# Altium footprint library aPassive.PcbLib: 212 footprints (part 7 of 14)
Each footprint in its own frame and in the unit in brackets; x right, y up, seen from the top. Pads: shape width x height; smd on the part's side, far side on the other; paste and mask are expansions set on the pad; w line width, h text height; cw(c..) or ccw(c..) is an arc to the next point about the centre after c.
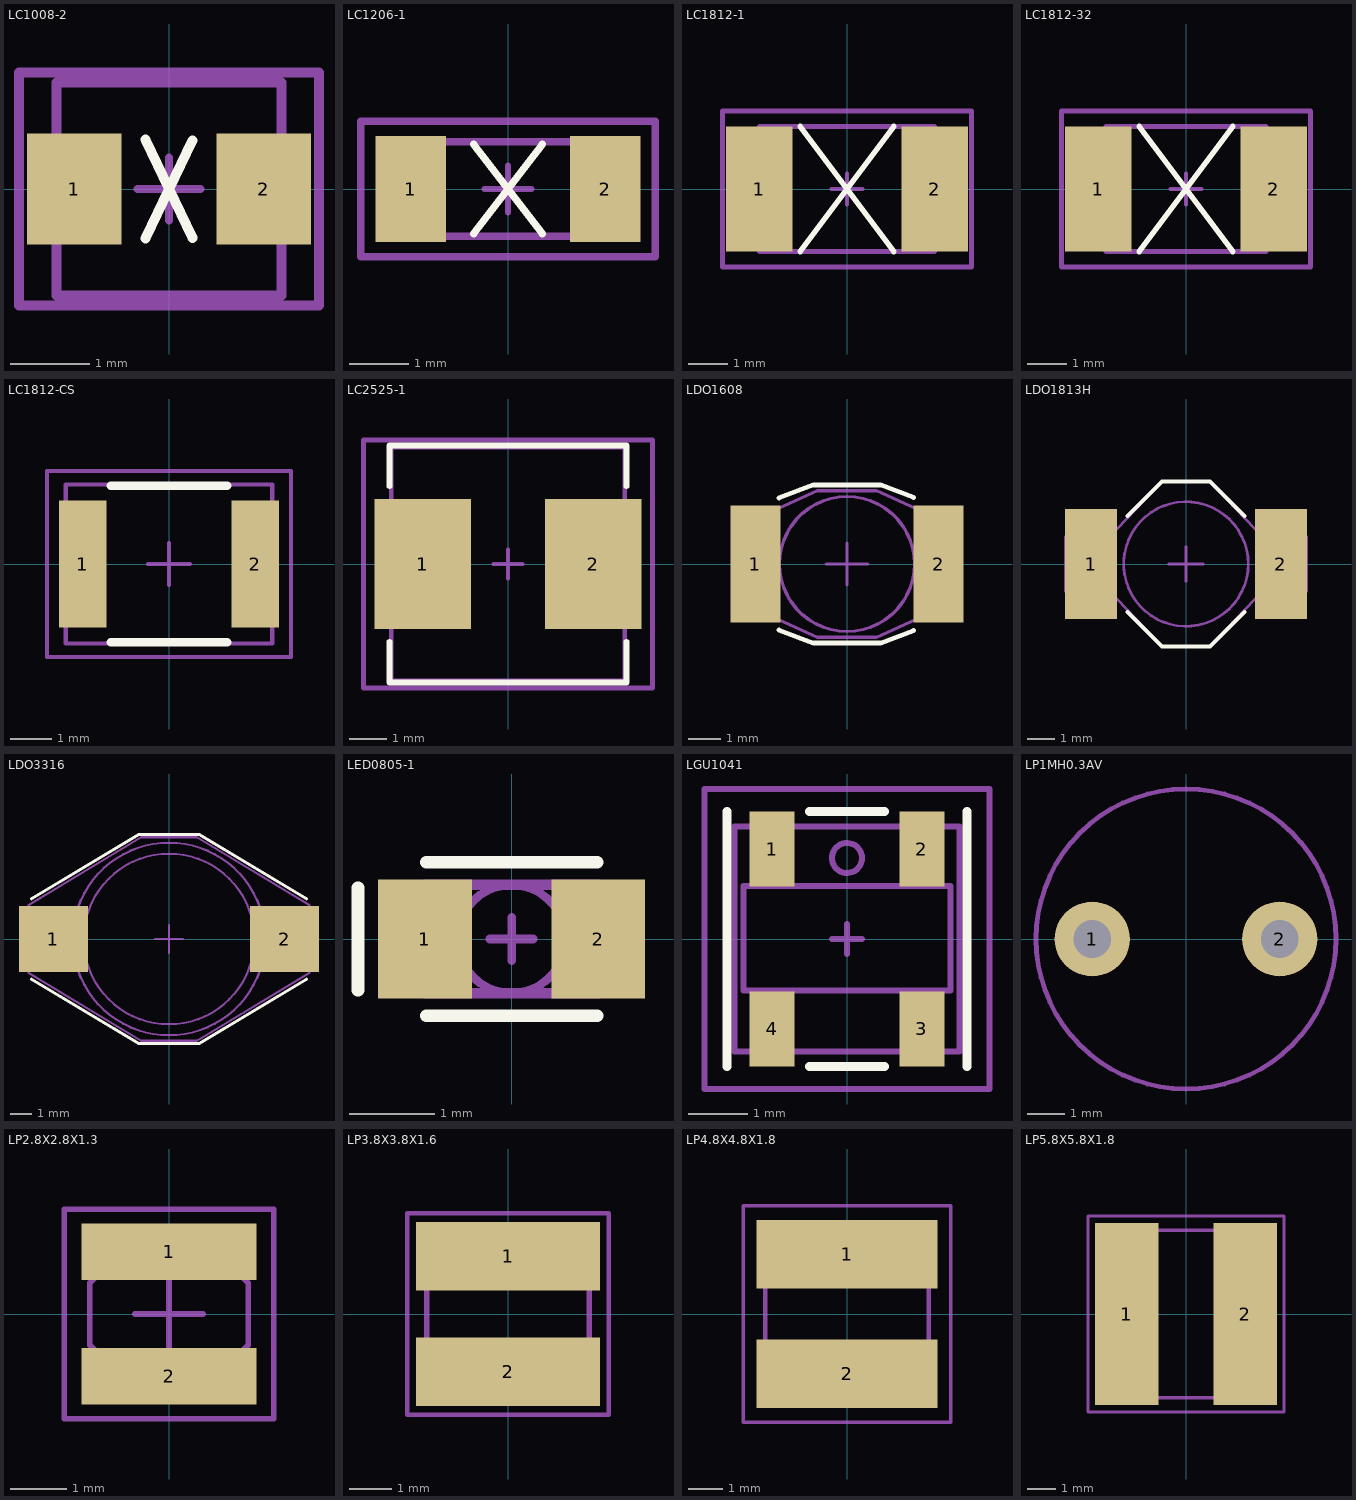
[diagram p6: the footprints below, top view; thin cyan lines are the x and y axes]

## LC1008-2 [mm] "Chip inductor  1008 2.84x2.73mm"
height 2.2
pads (2):
  rect 1.2x1.4 smd: 1(-1.2,0) 2(1.2,0)
Top Overlay:
  lines w0.127: -0.3,-0.625 0.296,0.616 ; -0.3,0.625 0.296,-0.618
Mechanical 13:
  lines w0.127: -1.425,-1.35 1.425,-1.35 1.425,1.35 -1.425,1.35 -1.425,-1.35
Mechanical 15:
  lines w0.102: -0.4,0 0.4,0 ; 0,-0.4 0,0.4
  lines w0.127: -1.9,-1.475 -1.9,1.475 1.9,1.475 1.9,-1.475 -1.9,-1.475
3D body: height 0.7, standoff 0, extent -1.55,-0.6 1.55,0.6
3D body: height 1.4, standoff 0, extent -1.425,-1.346 1.425,1.346

## LC1206-1 [mm] "Chip inductor 1206 (3216)"
height 2
pads (2):
  rect 1.2x1.8 smd: 1(-1.65,0) 2(1.65,0)
Top Overlay:
  lines w0.127: -0.584,-0.762 0.584,0.762 ; -0.584,0.762 0.584,-0.762
Mechanical 13:
  lines w0.127: -1.6,-0.8 1.6,-0.8 1.6,0.8 -1.6,0.8 -1.6,-0.8
Mechanical 15:
  lines w0.102: -0.4,0 0.4,0 ; 0,-0.4 0,0.4
  lines w0.127: -2.5,-1.15 -2.5,1.15 2.5,1.15 2.5,-1.15 -2.5,-1.15
3D body: height 1.3, standoff 0, extent -1.6,-0.8 1.6,0.8

## LC1812-1 [mm] "Chip capacitor 1812 (4532)"
height 1.3
pads (2):
  rect 1.7x3.2 smd: 1(-2.25,0) 2(2.25,0)
Top Overlay:
  lines w0.15: -1.2,-1.6 1.2,1.6 ; -1.2,1.6 1.2,-1.6
Mechanical 13:
  lines w0.127: -2.25,-1.6 2.25,-1.6 2.25,1.6 -2.25,1.6 -2.25,-1.6
Mechanical 15:
  lines w0.102: -0.4,0 0.4,0 ; 0,-0.4 0,0.4
  lines w0.127: -3.2,-2 -3.2,2 3.2,2 3.2,-2 -3.2,-2
3D body: height 1.3, standoff 0, extent -2.25,-1.6 2.25,1.6

## LC1812-32 [mm] "Chip capacitor 1812 (4532) 4.5x3.2x3.2mm"
height 3.2
pads (2):
  rect 1.7x3.2 smd: 1(-2.25,0) 2(2.25,0)
Top Overlay:
  lines w0.15: -1.2,-1.6 1.2,1.6 ; -1.2,1.6 1.2,-1.6
Mechanical 13:
  lines w0.1: -2.075,-1.3 -2.25,-1.3 -2.25,1.3 -2.05,1.3 ; 2.05,-1.3 2.25,-1.3 2.25,1.3 2.075,1.3
  lines w0.127: -2.05,-1.6 2.05,-1.6 2.05,1.6 -2.05,1.6 -2.05,-1.6
Mechanical 15:
  lines w0.102: -0.4,0 0.4,0 ; 0,-0.4 0,0.4
  lines w0.127: -3.2,-2 -3.2,2 3.2,2 3.2,-2 -3.2,-2
3D body: height 3.2, standoff 0, extent -2.054,-1.604 2.054,1.604
3D body: height 0.7, standoff 0, extent -2.25,-1.3 -2.05,1.3
3D body: height 0.7, standoff 0, extent 2.05,-1.3 2.25,1.3

## LC1812-CS [mm] "Chip Inductor, 2-Leads, Body 4,9x3,8mm, IPC Medium Density"
height 3.43
pads (2):
  rect 1.14x3.05 smd: 1(-2.07,0) 2(2.07,0)
Top Overlay:
  lines w0.2: -1.4,-1.875 1.4,-1.875 ; -1.4,1.875 1.4,1.875
Mechanical 13:
  lines w0.1: -2.475,-1.905 -2.475,1.905 2.475,1.905 2.475,-1.905 -2.475,-1.905
Mechanical 15:
  lines w0.1: -0.5,0 0.5,0 ; 0,-0.5 0,0.5 ; -2.921,-2.225 -2.921,2.225 2.921,2.225 2.921,-2.225 -2.921,-2.225
3D body: height 3.43, standoff 0, extent -2.475,-1.905 2.475,1.905

## LC2525-1 [mm] "Chip capacitor 6.3x6.3x4.7mm"
height 4.7
pads (2):
  rect 2.6x3.5 smd: 1(-2.3,0) 2(2.3,0)
Top Overlay:
  lines w0.15: -3.2,-2.1 -3.2,-3.2 3.2,-3.2 3.2,-2.1 ; -3.2,2.1 -3.2,3.2 3.2,3.2 3.2,2.1
Mechanical 13:
  lines w0.127: -3.15,-3.15 3.15,-3.15 3.15,3.15 -3.15,3.15 -3.15,-3.15
Mechanical 15:
  lines w0.102: -0.4,0 0.4,0 ; 0,-0.4 0,0.4
  lines w0.127: -3.9,-3.35 -3.9,3.35 3.9,3.35 3.9,-3.35 -3.9,-3.35
3D body: height 4.7, standoff 1, extent -3.15,-3.15 3.15,3.15
3D body: height 1, standoff 0, extent -2.75,-2.65 -1,2.65
3D body: height 1, standoff 0, extent 1,-2.65 2.75,2.65
3D body: height 1, standoff 0.15, extent -1,-2.65 1,2.65

## LDO1608 [mil]
height 118.11
pads (2):
  rect 60x140 smd: 1(-110,0) 2(110,0)
Top Overlay:
  lines w5.91: -81.64,-79.38 -40,-95 40,-95 80,-80 ; -81.64,79.38 -40,95 40,95 80,80
Mechanical 13:
  circle w4: c0,0 r81
  lines w4: -130,-45 -35,-88 35,-88 130,-45 130,45 35,88 -35,88 -130,45 -130,-45
Mechanical 15:
  lines w4: -25,0 25,0 ; 0,-25 0,25
3D body: height 31.5, standoff 0, extent -130,-88 130,88
3D body: height 118.11, standoff 102.36, extent -81.1,-81.1 81.1,81.1
3D body: height 102.36, standoff 31.5, extent -75.17,-75.17 75.17,75.17

## LDO1813H [mil] "Power Inductor 9x6x5mm"
height 196.85
pads (2):
  rect 75x160 smd: 1(-138,0) 2(137.99,0)
Top Overlay:
  lines w5.91: -85,-70 -35,-120 35,-120 85,-70 ; -85,70 -35,120 35,120 85,70
Mechanical 13:
  circle w4.02: c0,0 r90.55
  lines w4: -175,-40 -175,40 -125,25 -35,120 35,120 125,25 175,40 175,-40 125,-25 35,-120 -35,-120 -125,-25 -175,-40
Mechanical 15:
  lines w4: -25,0 25,0 ; 0,-25 0,25
3D body: height 78.74, standoff 0, extent -175,-120 175,120
3D body: height 157.48, standoff 78.74, extent -90.44,-90.44 90.99,90.44
3D body: height 196.85, standoff 157.48, extent -90.44,-90.44 90.99,90.44

## LDO3316 [mil] "DO3316 power inductor smd"
height 205.12
pads (2):
  rect 125x120 smd: 1(-210,0) 2(210,0)
Top Overlay:
  lines w5.91: -250,-73 -55,-190 55,-190 250,-73 ; -250,73 -55,190 55,190 250,73
Mechanical 13:
  circle w4: c0,0 r155
  circle w4: c0,0 r175
  lines w4: -255,-62 -255,62 -50,185 50,185 255,62 255,-62 50,-185 -50,-185 -255,-62
Mechanical 15:
  lines w4: -25,0 25,0 ; 0,-25 0,25
3D body: height 185.04, standoff 59.06, extent -155.48,-155.48 155.48,155.48
3D body: height 59.06, standoff 0, extent -254.99,-185 255.01,185
3D body: height 205.12, standoff 185.04, extent -175.38,-175.38 175.38,175.38

## LED0805-1 [mm] "LED 0805 2X1.25mm"
height 1.1
pads (2):
  rect 1.1x1.4 smd: 1(-1.016,0) 2(1.016,0)
Top Overlay:
  lines w0.15: -1.8,-0.6 -1.8,0.6 ; -1,-0.9 1,-0.9 ; -1,0.9 1,0.9
Mechanical 13:
  circle w0.1: c0,0 r0.635
  lines w0.102: -0.9,0.635 -0.9,-0.635 -0.8,-0.635 -0.8,0.635 -0.7,0.635 -0.7,-0.635
  lines w0.127: -1.016,-0.635 1.016,-0.635 1.016,0.635 -1.016,0.635 -1.016,-0.635
Mechanical 15:
  lines w0.1: -0.254,0 0.254,0 ; 0,-0.254 0,0.254
3D body: height 0.7, standoff 0, extent -1.016,-0.635 1.016,0.635

## LGU1041 [mil] "RF Choke 3.81x3.81mm 4pin"
height 150
pads (4):
  rect 30x50 smd: 1(-50,60) 2(50,60) 3(50,-60) 4(-50,-60)
Top Overlay:
  lines w5.91: -80,-85 -80,85 ; -25,-85 25,-85 ; -25,85 25,85 ; 80,-85 80,85
Mechanical 13:
  circle w4: c0,54 r10
  lines w4: -75,-75 -75,75 75,75 75,-75 -75,-75 ; -68.9,-34.45 68.9,-34.45 68.9,35.43 -68.9,35.43 -68.9,-34.45
Mechanical 15:
  lines w4: -10,0 10,0 ; 0,-10 0,10 ; -95,-100 95,-100 95,100 -95,100 -95,-100
3D body: height 74.8, standoff 66.93, extent -45.5,-62.23 45.5,63.21
3D body: height 106.3, standoff 98.43, extent -45.5,-62.23 45.5,63.21
3D body: height 59.06, standoff 51.18, extent -45.5,-62.23 45.5,63.21
3D body: height 122.05, standoff 114.17, extent -45.5,-62.23 45.5,63.21
3D body: height 90.55, standoff 82.68, extent -45.5,-62.23 45.5,63.21
3D body: height 23.62, standoff 0, extent -75,-75 75,75
3D body: height 149.61, standoff 129.92, extent -68.9,-34.45 68.9,34.45
3D body: height 43.31, standoff 23.62, extent -68.9,-34.45 68.9,34.45
3D body: height 129.92, standoff 43.31, extent -68.9,-34.45 -49.21,35.43
3D body: height 129.92, standoff 43.31, extent -9.84,-34.45 9.84,35.43
3D body: height 129.92, standoff 43.31, extent 49.21,-34.45 68.9,35.43
3D body: height 24.02, standoff 23.62, extent -10.04,44.1 10.04,64.17

## LP1MH0.3AV [mm]
height 11
pads (2):
  round 2 hole 1: 1(-2.5,0) 2(2.5,0)
Mechanical 13:
  circle w0.127: c0,0 r4
3D body: height 1, standoff -3, extent 2.151,-0.349 2.849,0.35
3D body: height 1, standoff -3, extent -2.849,-0.35 -2.151,0.349
3D body: height 10, standoff 9, extent -4,-4 3.968,3.984
3D body: height 9, standoff 3, extent -3.8,-3.8 3.77,3.785
3D body: height 3, standoff 1, extent -4,-4 3.968,3.984
3D body: height 2, standoff 0, extent -1.7,1.6 1.7,3.9
3D body: height 2, standoff 0, extent -1.7,-3.9 1.7,-1.6

## LP2.8X2.8X1.3 [mm] "SMD Power inductor 2.8x2.8x1.3mm shielded"
height 1.3
pads (2):
  rect 3.1x1 smd: 1(0,1.1) 2(0,-1.1)
Mechanical 13:
  lines w0.1: -1.4,-0.55 -0.55,-1.4 0.55,-1.4 1.4,-0.55 1.4,-0.1 1.4,0.55 0.55,1.4 -0.55,1.4 -1.4,0.55 -1.4,-0.55
Mechanical 15:
  lines w0.1: -0.6,0 0.6,0 ; 0,-0.6 0,0.6
  lines w0.102: -1.85,-1.85 1.85,-1.85 1.85,1.85 -1.85,1.85 -1.85,-1.85
3D body: height 1.35, standoff 0.2, extent -1.067,-1.073 1.075,1.073
3D body: height 0.2, standoff 0, extent -1.4,-1.4 1.4,-0.55
3D body: height 0.2, standoff 0, extent -1.4,0.55 1.4,1.4
3D body: height 1.35, standoff 0.2, extent -1.4,-1.4 1.4,1.4

## LP3.8X3.8X1.6 [mm] "SMD Power inductor 3.8x3.8x1.6mm shielded"
height 1.8
pads (2):
  rect 4.3x1.6 smd: 1(0,1.35) 2(0,-1.35)
Mechanical 13:
  lines w0.127: -1.9,-1.6 ccw(c-1.6,-1.6) -1.6,-1.9 1.6,-1.9 ccw(c1.6,-1.6) 1.9,-1.6 1.9,1.6 ccw(c1.6,1.6) 1.6,1.9 -1.6,1.9 ccw(c-1.6,1.6) -1.9,1.6 -1.9,-1.6
Mechanical 15:
  lines w0.102: -2.35,-2.35 2.35,-2.35 2.35,2.35 -2.35,2.35 -2.35,-2.35
3D body: height 1.65, standoff 0.2, extent -1.906,-1.906 1.906,1.906
3D body: height 1.66, standoff 1, extent -1.311,-1.311 1.311,1.311
3D body: height 0.2, standoff 0, extent -1.906,0.6 1.906,1.906
3D body: height 0.2, standoff 0, extent -1.906,-1.906 1.906,-0.6

## LP4.8X4.8X1.8 [mm] "SMD Power inductor 4.8x4.8x1.8mm shielded"
height 1.8
pads (2):
  rect 5.3x2 smd: 1(0,1.75) 2(0,-1.75)
Mechanical 13:
  lines w0.127: -2.4,2.032 -2.4,-2.032 ccw(c-2.04,-2.032) -2.04,-2.392 ; -2.392,2.04 cw(c-2.032,2.04) -2.032,2.4 2.032,2.4 ; -2.032,-2.4 2.032,-2.4 ccw(c2.032,-2.04) 2.392,-2.04 ; 2.04,2.392 cw(c2.04,2.032) 2.4,2.032 2.4,-2.032
Mechanical 15:
  lines w0.102: -3.048,-3.175 -3.048,3.175 3.048,3.175 3.048,-3.175 -3.048,-3.175
3D body: height 1.81, standoff 1.8, extent -1.793,-1.803 1.793,1.789
3D body: height 1.8, standoff 0, extent -2.407,-2.407 2.407,2.407

## LP5.8X5.8X1.8 [mm] "SMD Power inductor 5.8x5.8x1.8mm shielded"
height 1.8
pads (2):
  rect 2.2x6.3 smd: 1(-2.05,0) 2(2.05,0)
Mechanical 13:
  lines w0.127: -2.9,-2.54 ccw(c-2.54,-2.54) -2.54,-2.9 2.54,-2.9 ccw(c2.54,-2.54) 2.9,-2.54 2.9,2.54 ccw(c2.54,2.54) 2.54,2.9 -2.54,2.9 ccw(c-2.54,2.54) -2.9,2.54 -2.9,-2.54
Mechanical 15:
  lines w0.102: -3.4,-3.4 -3.4,3.4 3.4,3.4 3.4,-3.4 -3.4,-3.4
3D body: height 1.8, standoff 0.2, extent -2.907,-2.907 2.907,2.907
3D body: height 1.81, standoff 1, extent -2.211,-2.211 2.211,2.211
3D body: height 0.2, standoff 0, extent -2.908,-2.908 -1,2.908
3D body: height 0.2, standoff 0, extent 1,-2.908 2.908,2.908